# Altium footprint library SMD_6.3x7.7mm.PcbLib: 1 footprints
Each footprint in its own frame and in the unit in brackets; x right, y up, seen from the top. Pads: shape width x height; smd on the part's side, far side on the other; paste and mask are expansions set on the pad; w line width, h text height; cw(c..) or ccw(c..) is an arc to the next point about the centre after c.
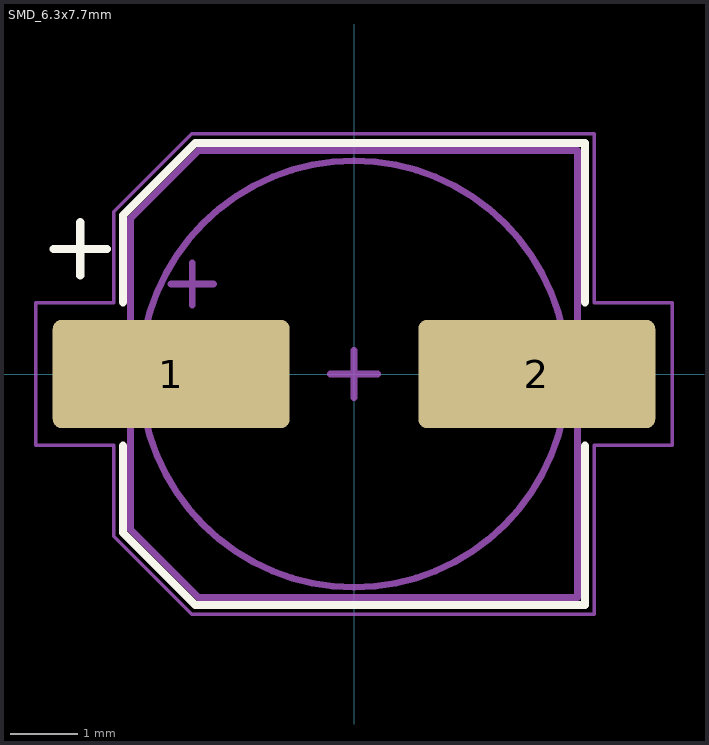
[diagram p0: the footprint, top view; thin cyan lines are the x and y axes]

## SMD_6.3x7.7mm [mm]
pads (2):
  rrect16% 3.5x1.6 smd mask+0.051: 1(-2.7,0) 2(2.7,0)
Top Overlay:
  lines w0.12: -4.437,1.847 -3.65,1.847 ; -4.044,1.454 -4.044,2.241 ; -3.41,-1.06 -3.41,-2.346 -2.346,-3.41 3.41,-3.41 3.41,-1.06 ; -3.41,1.06 -3.41,2.346 -2.346,3.41 3.41,3.41 3.41,1.06
Mechanical 4:
  lines w0.05: -4.7,-1.05 -4.7,1.05 -3.55,1.05 -3.55,2.4 -2.4,3.55 3.55,3.55 3.55,1.05 4.7,1.05 4.7,-1.05 3.55,-1.05 3.55,-3.55 -2.4,-3.55 -3.55,-2.4 -3.55,-1.05 -4.7,-1.05
Mechanical 6:
  circle w0.1: c0,0 r3.15
  lines w0.1: -2.705,1.33 -2.075,1.33 ; -2.39,1.015 -2.39,1.645 ; -3.3,-2.3 -3.3,2.3 -2.3,3.3 3.3,3.3 3.3,-3.3 -2.3,-3.3 -3.3,-2.3
  text "C18" at -0.709,-0.312 h1
Top Designator:
  text ".Designator" at -7.618,-0.406 h1.52
Top Courtyard:
  lines w0.1: -3.3,-2.3 -2.3,-3.3 3.3,-3.3 3.3,3.3 -2.3,3.3 -3.3,2.3 -3.3,-2.3
Top Component Center:
  lines w0.1: -0.353,0 0.353,0 ; 0,-0.353 0,0.353
3D body "User Library-CC0607.step": height 8.11, standoff 0, extent -3.5,-3.351 3.5,3.249